# Altium schematic symbol library power.SchLib: 11 symbols
Pins are listed as number, name and electrical type; pins without a type are passive.

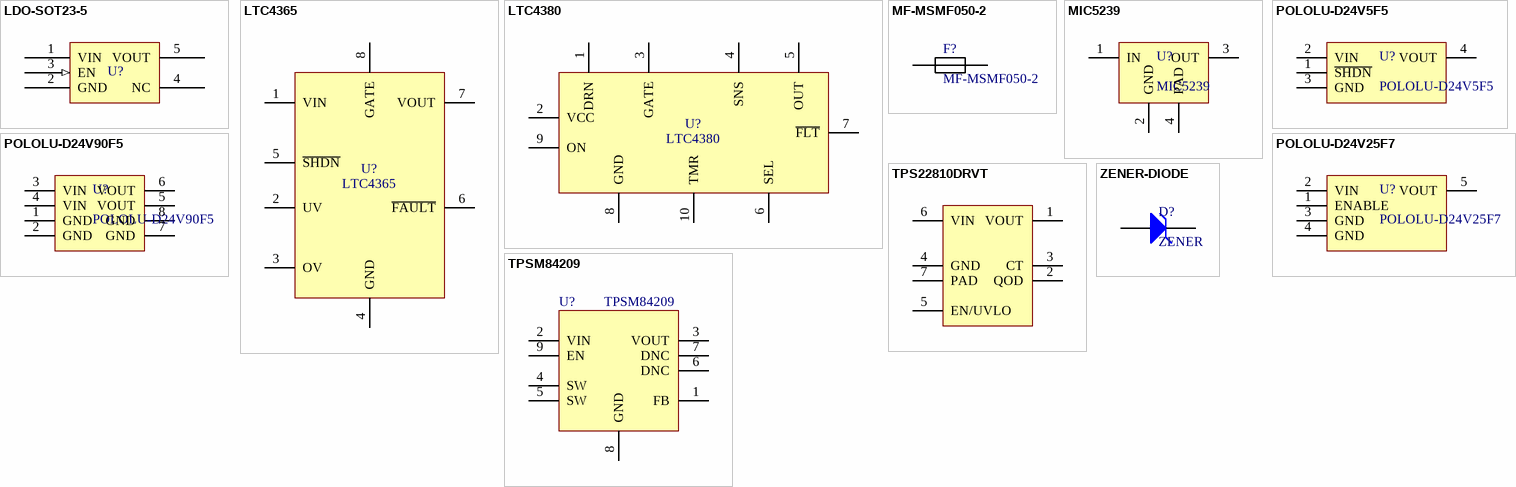
[diagram p0: symbols LDO-SOT23-5 to ZENER-DIODE]

## LDO-SOT23-5
designator U?  (value not drawn)
footprint SOT23-5
pins: 1 VIN (power), 2 GND (power), 3 EN (in), 4 NC (power), 5 VOUT

## LTC4365
designator U?
footprint SOT23-8
pins: 1 VIN, 2 UV, 3 OV, 4 GND, 5 ~{SHDN}, 6 ~{FAULT}, 7 VOUT, 8 GATE

## LTC4380
designator U?
footprint SOP10
pins: 1 DRN, 2 VCC, 3 GATE, 4 SNS, 5 OUT, 6 SEL, 7 ~{FLT}, 8 GND, 9 ON, 10 TMR

## MF-MSMF050-2
designator F?
footprint PTC-1218; pin to pad 21>1 22>2
pins: 21 1, 22 2

## MIC5239
designator U?
footprint SOT230P700X180-4N (SOT223, 4-Leads, Body 6,50x7,00mm (avg), Pitch 2,30mm, IPC Medium Density)
pins: 1 IN (power), 2 GND (power), 3 OUT (power), 4 PAD (power)

## POLOLU-D24V5F5
designator U?
footprint POLOLU-D24V5F5
pins: 1 ~{SHDN}, 2 VIN, 3 GND, 4 VOUT

## POLOLU-D24V25F7
designator U?
footprint POLOLU-D24V25F7
pins: 1 ENABLE, 2 VIN, 3 GND, 4 GND, 5 VOUT

## POLOLU-D24V90F5
designator U?
footprint POLOLU-D24V90F5
pins: 1 GND, 2 GND, 3 VIN, 4 VIN, 5 VOUT, 6 VOUT, 7 GND, 8 GND

## TPS22810DRVT
designator IC?  (value not drawn)
Power Load Switch, 18Vin, 3A, 0.079R, WSON-6, High Side,  TPS22810, TEXAS INSTRUMENTS; Number of Channels: 1; Input Voltage Range: 2.7V .. 18V; Supplier 1: Farnell; Manufacturer: Texas Instruments; Manufacturer Part Number: TPS22810DRVT; Operating Temperature Range: -40°C .. 105°C; ComponentLink1URL: http://www.ti.com/lit/ds/symlink/tps22810.pdf; ComponentLink1Description: Datasheet; Supplier 2: Mouser; On-Resistance: 0.079R; Package: WSON-6; Supplier Part Number 1: 2769481; Supplier Part Number 2: 595-TPS22810DRVT
footprint WSON-6 (SON, 6-Leads, Body 2,00x2,00mm, Pitch 0,65mm, Thermal Pad 1,60x1mm, IPC Medium Density)
pins: 1 VOUT, 2 QOD, 3 CT, 4 GND, 5 EN/UVLO, 6 VIN, 7 PAD

## TPSM84209
designator U?
footprint TPSM84209
pins: 1 FB, 2 VIN, 3 VOUT, 4 SW, 5 SW, 6 DNC, 7 DNC, 8 GND, 9 EN

## ZENER-DIODE
designator D?, comment ZENER
footprint SODFL370X135-2N (SODFL, 2-Leads, Body 1,55x3,70mm, IPC Medium Density)
pins: 1, 2